# EAGLE library part L6924D (library EEG)
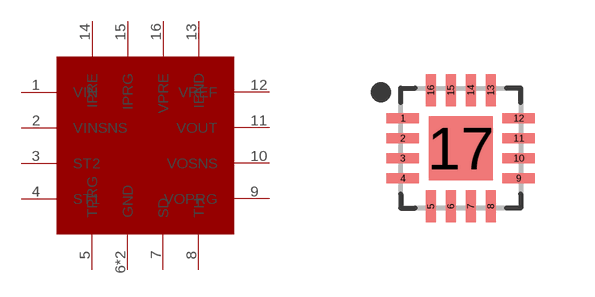
[diagram p1: symbol with the pads of L6924D; footprint L6924D]

Designator prefix -

## L6924D  [L6924D]
1  VIN
2  VINSNS
3  ST2
4  ST1
5  TPRG
6  GND
7  SD
8  TH
9  VOPRG
10  VOSNS
11  VOUT
12  VREF
13  IEND
14  IPRE
15  IPRG
16  VPRE
17  GND

## Footprint L6924D (pad centres in mm)
16-QFN, 0.50 mm pitch, 3.00 X 3.00 X 0.90 mm body, 1.60 X 1.60 mm thermal pad 16-pin QFN package with 0.50 mm pitch with body size 3.00 X 3.00 X 0.90 mm and thermal pad size 1.60 X 1.60 mm
smd 0.812 x 0.256: 1 -1.45,0.75; 2 -1.45,0.25; 3 -1.45,-0.25; 4 -1.45,-0.75; 9 1.45,-0.75; 10 1.45,-0.25; 11 1.45,0.25; 12 1.45,0.75
smd 0.256 x 0.812: 5 -0.75,-1.45; 6 -0.25,-1.45; 7 0.25,-1.45; 8 0.75,-1.45; 13 0.75,1.45; 14 0.25,1.45; 15 -0.25,1.45; 16 -0.75,1.45
smd 1.6 x 1.6: 17 0,0